# EAGLE library part FT231XQ-R (library FT231XQ-R)
USB2.0 Full Speed IC offers a compact bridge to full handshake UART Interface Check availability <https://pricing.snapeda.com/parts/FT231XQ-R/FTDI%2C%20Future/view-part?ref=eda>
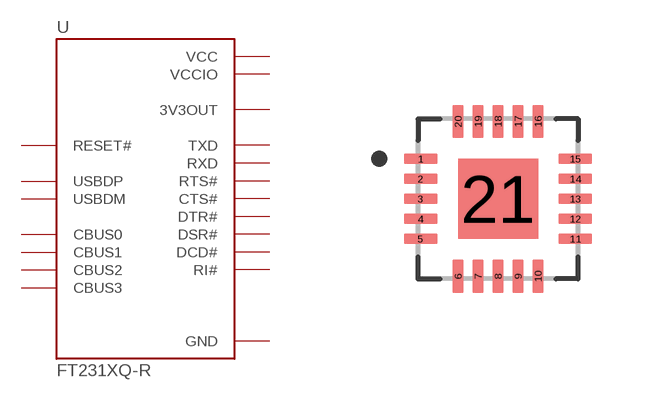
[diagram p0: symbol with the pads of QFN50P400X400X80-21N; footprint QFN50P400X400X80-21N]

Designator prefix U

## FT231XQ-R (AVAILABILITY: In Stock; DESCRIPTION: USB Bridge, USB to UART USB 2.0 UART Interface 20-QFN (4x4); MF: FTDI, Future; MP: FT231XQ-R; PACKAGE: QFN-20 FTDI; PRICE: None; PURCHASE-URL: https://pricing.snapeda.com/search?q=FT231XQ-R&ref=eda)  [QFN50P400X400X80-21N]
1  RXD  in
2  RI#  in
3  GND  pwr
4  DSR#  in
5  DCD#  in
6  CTS#  in
7  CBUS2
8  USBDP
9  USBDM
10  3V3OUT  out
11  RESET#  in
12  VCC  pwr
13  GND  pwr
14  CBUS1
15  CBUS0
16  CBUS3
17  TXD  out
18  DTR#  out
19  RTS#  out
20  VCCIO  pwr
21  GND  pwr

## Footprint QFN50P400X400X80-21N (pad centres in mm)
smd 0.84 x 0.27: 1 -1.935,1; 2 -1.935,0.5; 3 -1.935,0; 4 -1.935,-0.5; 5 -1.935,-1; 11 1.935,-1; 12 1.935,-0.5; 13 1.935,0; 14 1.935,0.5; 15 1.935,1
smd 0.27 x 0.84: 6 -1,-1.935; 7 -0.5,-1.935; 8 0,-1.935; 9 0.5,-1.935; 10 1,-1.935; 16 1,1.935; 17 0.5,1.935; 18 0,1.935; 19 -0.5,1.935; 20 -1,1.935
smd 2 x 2: 21 0,0